# EAGLE library part PINHD-2X3_SMD (library eload_powermeter)
PIN HEADER
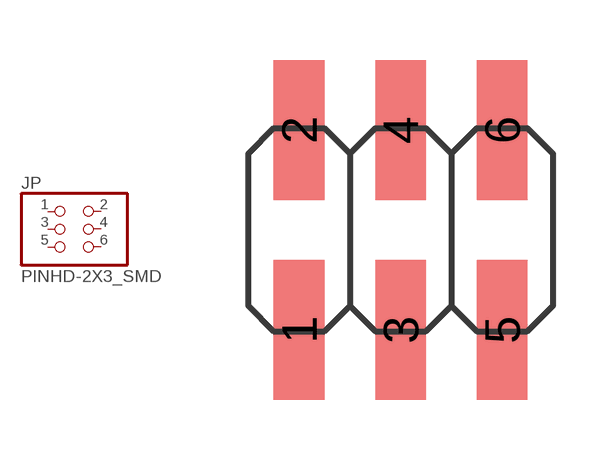
[diagram p7: symbol with the pads of 2X03; footprint 2X03]

Designator prefix JP

## PINHD-2X3_SMD  [2X03]
1  1  pas
2  2  pas
3  3  pas
4  4  pas
5  5  pas
6  6  pas

## Footprint 2X03 (pad centres in mm)
PIN HEADER
smd 1.27 x 3.5: 1 -2.54,-2.5; 2 -2.54,2.5; 3 0,-2.5; 4 0,2.5; 5 2.54,-2.5; 6 2.54,2.5